# EAGLE library part ADG419 (library STM_Library)
LC²MOS Precision Mini-DIP Analog switch Source: http://www.analog.com/UploadedFiles/Data_Sheets/ADG419.pdf
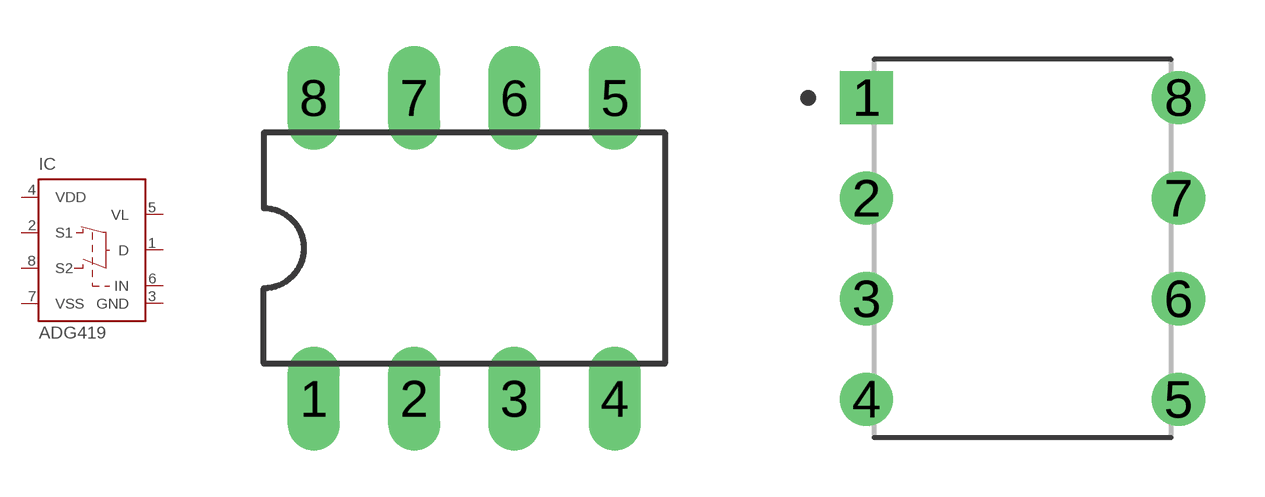
[diagram p4: symbol with the pads of DIL08; footprints DIL08, DIP787W46P254L953H457Q8]

Designator prefix IC

## ADG419 (AVAILABILITY: Unavailable; DESCRIPTION: Semiconductors and Actives; MF: Analog Devices; MP: ADG419; PACKAGE: None; PRICE: None)  [DIL08]
1  D
2  S1
3  GND  pwr
4  VDD  pwr
5  VL  pwr
6  IN  in
7  VSS  pwr
8  S2

## ADG419DIP  [DIP787W46P254L953H457Q8]
Pads as for DIL08

## ADG419MSOP  [SOP65P490X110-8N]
Pads as for DIL08

## Footprint DIL08 (pad centres in mm)
Dual In Line Package
drill 0.813 long: 1 -3.81,-3.81; 2 -1.27,-3.81; 3 1.27,-3.81; 4 3.81,-3.81; 5 3.81,3.81; 6 1.27,3.81; 7 -1.27,3.81; 8 -3.81,3.81

## Footprint DIP787W46P254L953H457Q8 (pad centres in mm)
drill 0.83 pad 1.25 square: 1 -3.935,3.81
drill 0.83 pad 1.25: 2 -3.935,1.27; 3 -3.935,-1.27; 4 -3.935,-3.81; 5 3.935,-3.81; 6 3.935,-1.27; 7 3.935,1.27; 8 3.935,3.81

## Footprint SOP65P490X110-8N (pad centres in mm)
smd 1.499 x 0.432: 1 -2.184,0.965; 2 -2.184,0.33; 3 -2.184,-0.33; 4 -2.184,-0.965; 5 2.184,-0.965; 6 2.184,-0.33; 7 2.184,0.33; 8 2.184,0.965